# Altium schematic symbol library 234450.SchLib: 1 symbol
Pins are listed as number, name and electrical type; pins without a type are passive.

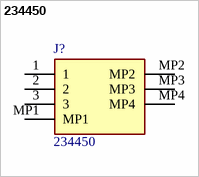
[diagram p0: symbol 234450]

## 234450
designator J?
ERNI, 1.27mm Pitch 3 Way 1 Row Right Angle PCB Header, Solder Termination, 4A; Geometry.Height: 2.98mm; Manufacturer_Name: ERNI; Manufacturer_Part_Number: 234450; Mouser Part Number: 305-234450; Mouser Price/Stock: https://www.mouser.co.uk/ProductDetail/ERNI/234450?qs=DK05bRAVOD4CDOGVl35lNg%3D%3D; Arrow Part Number: 234450; Arrow Price/Stock: https://www.arrow.com/en/products/234450/erni-electronics?region=europe; Datasheet Link: https://www.erni.com/fileadmin/import/products/assets/DC0000169.PDF
footprint 234450
pins: 1, 2, 3, MP1, MP2, MP3, MP4